# Altium footprint library resistor.PCBLIB: 427 footprints (part 19 of 27)
Each footprint in its own frame and in the unit in brackets; x right, y up, seen from the top. Pads: shape width x height; smd on the part's side, far side on the other; paste and mask are expansions set on the pad; w line width, h text height; cw(c..) or ccw(c..) is an arc to the next point about the centre after c.
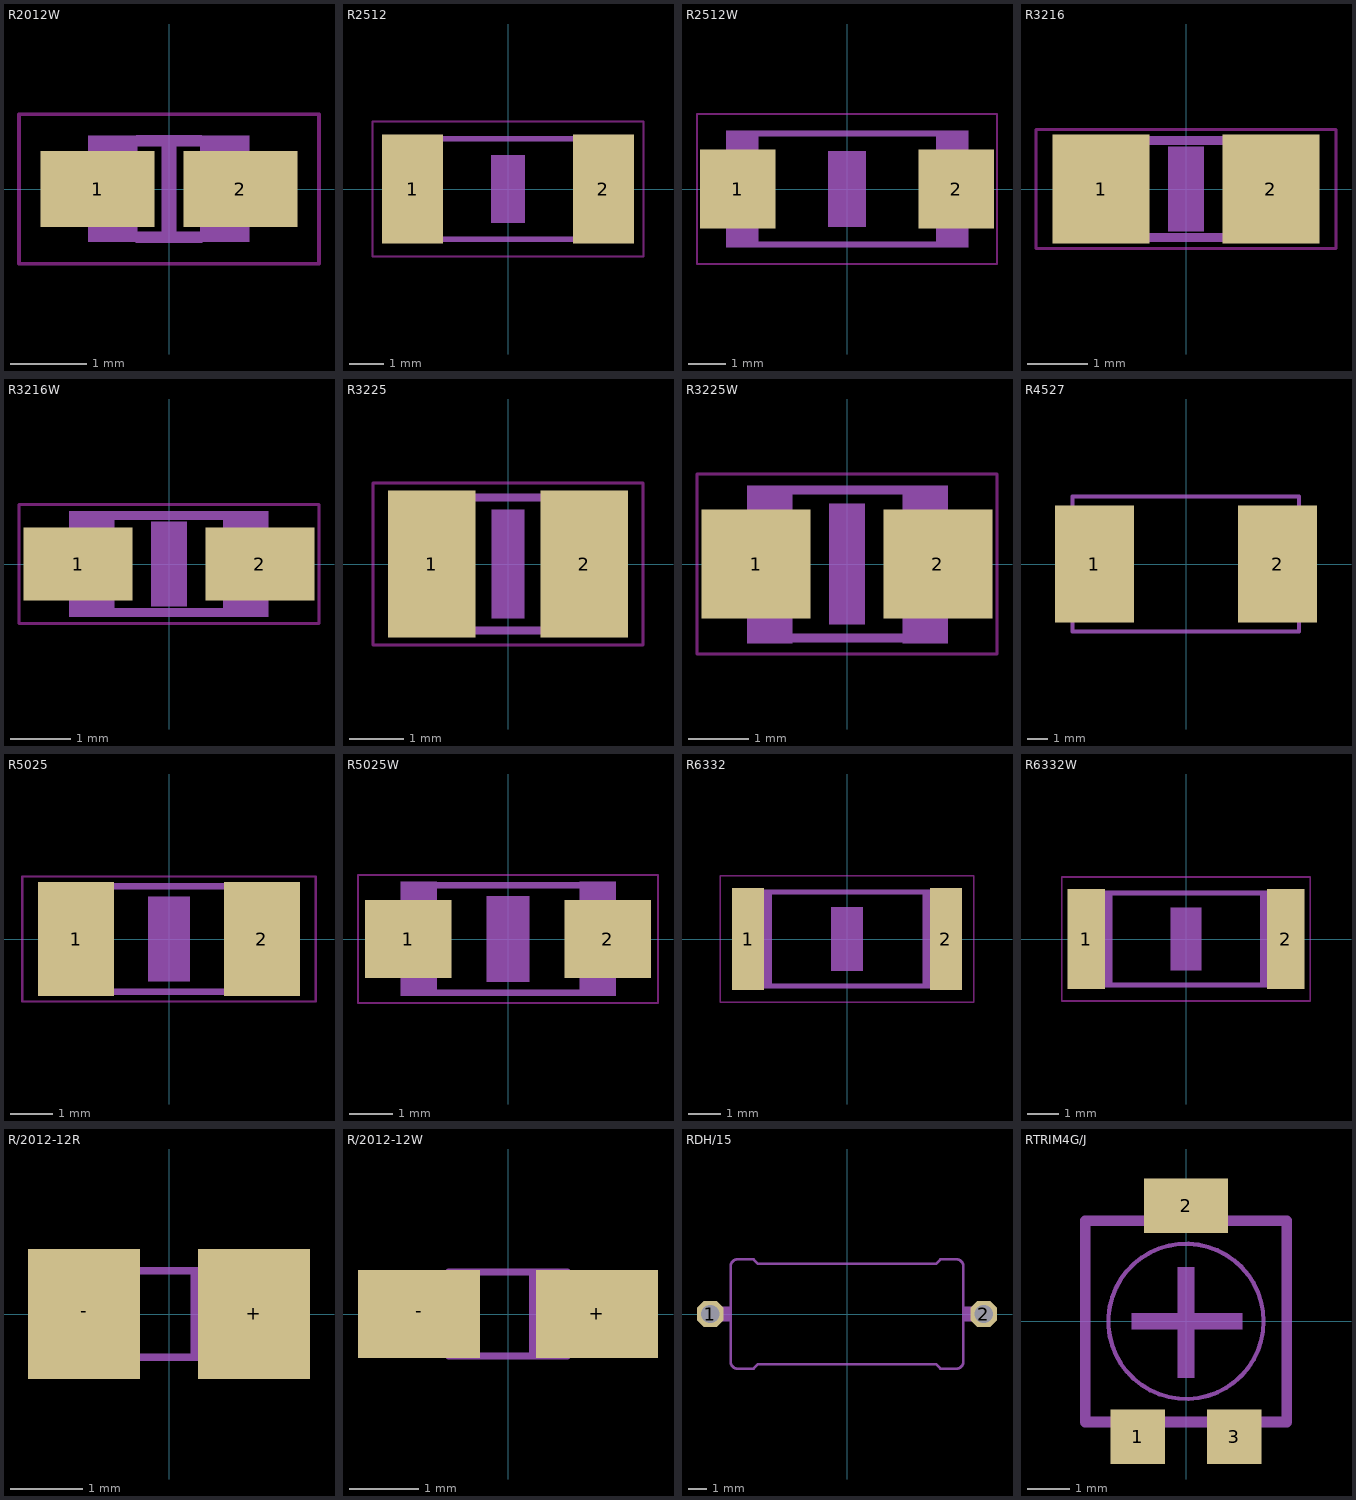
[diagram p18: the footprints below, top view; thin cyan lines are the x and y axes]

## R2012W [mm]
pads (2):
  rect 1.5x1 smd: 1(-0.94,0) 2(0.94,0)
Keep-Out Layer:
  lines w0.051: -1.973,-0.983 1.973,-0.983 1.973,0.983 -1.973,0.983 -1.973,-0.983
Mechanical 8:
  rectangle: -0.1,-0.6 0.1,0.6
Mechanical 18:
  rectangle: 0.406,-0.699 1.056,0.702
  rectangle: -1.067,-0.699 -0.417,0.702
  lines w0.152: -0.41,-0.635 0.41,-0.635 ; -0.41,0.635 0.41,0.635

## R2512 [mil]
pads (2):
  rect 70.87x125.98 smd: 1(-110.24,0) 2(110.24,0)
Keep-Out Layer:
  lines w2: -156.42,-78.07 156.42,-78.07 156.42,78.07 -156.42,78.07 -156.42,-78.07
Mechanical 8:
  rectangle: -19.69,-39.37 19.69,39.37
Mechanical 18:
  rectangle: -126,-61 -92.54,61.05
  rectangle: 93,-61 126.46,61.05
  lines w6: -92.99,-57.99 93.98,-57.99 ; -92.99,57.99 93.98,57.99

## R2512W [mm]
pads (2):
  rect 2x2.1 smd: 1(-2.896,0) 2(2.896,0)
Keep-Out Layer:
  lines w0.051: -3.973,-1.983 3.973,-1.983 3.973,1.983 -3.973,1.983 -3.973,-1.983
Mechanical 8:
  rectangle: -0.5,-1 0.5,1
Mechanical 18:
  rectangle: -3.2,-1.549 -2.351,1.551
  rectangle: 2.362,-1.549 3.212,1.551
  lines w0.152: -2.362,-1.473 2.387,-1.473 ; -2.362,1.473 2.387,1.473

## R3216 [mil]
pads (2):
  rect 62.99x70.87 smd: 1(-55.12,0) 2(55.12,0)
Keep-Out Layer:
  lines w2: -97.36,-38.7 97.36,-38.7 97.36,38.7 -97.36,38.7 -97.36,-38.7
Mechanical 8:
  rectangle: -11.81,-27.56 11.81,27.56
Mechanical 18:
  rectangle: -65,-34.5 -35.47,34.4
  rectangle: 35,-34.5 64.53,34.4
  lines w6: -35.94,-31.5 34.96,-31.5 ; -35.94,31.5 34.96,31.5

## R3216W [mil]
pads (2):
  rect 70.87x47.24 smd: 1(-59.02,0) 2(59.02,0)
Keep-Out Layer:
  lines w2: -97.36,-38.7 97.36,-38.7 97.36,38.7 -97.36,38.7 -97.36,-38.7
Mechanical 8:
  rectangle: -11.81,-27.56 11.81,27.56
Mechanical 18:
  rectangle: -65,-34.5 -35.47,34.4
  rectangle: 35,-34.5 64.53,34.4
  lines w6: -35.94,-31.5 34.96,-31.5 ; -35.94,31.5 34.96,31.5

## R3225 [mil]
pads (2):
  rect 62.99x106.3 smd: 1(-55.12,0) 2(55.12,0)
Keep-Out Layer:
  lines w2: -97.36,-58.39 97.36,-58.39 97.36,58.39 -97.36,58.39 -97.36,-58.39
Mechanical 8:
  rectangle: -11.81,-39.37 11.81,39.37
Mechanical 18:
  rectangle: -65,-51.5 -35.47,50.86
  rectangle: 36,-51.5 65.53,50.86
  lines w6: -35.94,-47.99 36.97,-47.99 ; -35.94,47.99 36.97,47.99

## R3225W [mil]
pads (2):
  rect 70.87x70.87 smd: 1(-59.02,0) 2(59.02,0)
Keep-Out Layer:
  lines w2: -97.36,-58.39 97.36,-58.39 97.36,58.39 -97.36,58.39 -97.36,-58.39
Mechanical 8:
  rectangle: -11.81,-39.37 11.81,39.37
Mechanical 18:
  rectangle: -65,-51.5 -35.47,50.86
  rectangle: 36,-51.5 65.53,50.86
  lines w6: -35.94,-47.99 36.97,-47.99 ; -35.94,47.99 36.97,47.99

## R4527 [mil]
pads (2):
  rect 155.12x229.92 smd: 1(-180.12,0) 2(180.12,0)
Mechanical 2:
  lines w8: -223.43,-132.87 222.44,-132.87 ; -223.43,132.87 222.44,132.87
Mechanical 18:
  lines w8: -223.43,-132.87 -223.43,132.87 ; 222.44,-132.87 222.44,132.87

## R5025 [mil]
pads (2):
  rect 70.87x106.3 smd: 1(-86.61,0) 2(86.61,0)
Keep-Out Layer:
  lines w2: -136.73,-58.39 136.73,-58.39 136.73,58.39 -136.73,58.39 -136.73,-58.39
Mechanical 8:
  rectangle: -19.69,-39.37 19.69,39.37
Mechanical 18:
  rectangle: -98,-52 -64.54,52.33
  rectangle: 65,-52 98.46,52.33
  lines w6: -65.43,49.02 65.43,49.02 ; -64.45,-49.02 66.42,-49.02

## R5025W [mm]
pads (2):
  rect 2x1.8 smd: 1(-2.311,0) 2(2.311,0)
Keep-Out Layer:
  lines w0.051: -3.473,-1.483 3.473,-1.483 3.473,1.483 -3.473,1.483 -3.473,-1.483
Mechanical 8:
  rectangle: -0.5,-1 0.5,1
Mechanical 18:
  rectangle: -2.489,-1.321 -1.639,1.329
  rectangle: 1.651,-1.321 2.501,1.329
  lines w0.152: -1.662,1.245 1.662,1.245 ; -1.637,-1.245 1.687,-1.245

## R6332 [mm]
pads (2):
  rect 1x3.2 smd: 1(-3.1,0) 2(3.1,0)
Keep-Out Layer:
  lines w0.051: -3.973,-1.983 3.973,-1.983 3.973,1.983 -3.973,1.983 -3.973,-1.983
Mechanical 8:
  rectangle: -0.5,-1 0.5,1
Mechanical 18:
  rectangle: -3.2,-1.549 -2.351,1.551
  rectangle: 2.362,-1.549 3.212,1.551
  lines w0.152: -2.362,-1.473 2.387,-1.473 ; -2.362,1.473 2.387,1.473

## R6332W [mil]
pads (2):
  rect 47.24x125.98 smd: 1(-125.83,0) 2(125.83,0)
Keep-Out Layer:
  lines w2: -156.42,-78.07 156.42,-78.07 156.42,78.07 -156.42,78.07 -156.42,-78.07
Mechanical 8:
  rectangle: -19.69,-39.37 19.69,39.37
Mechanical 18:
  rectangle: -126,-61 -92.54,61.05
  rectangle: 93,-61 126.46,61.05
  lines w6: -92.99,-57.99 93.98,-57.99 ; -92.99,57.99 93.98,57.99

## R/2012-12R [mm]
pads (2):
  rect 1.55x1.8 smd: +(1.175,0) -(-1.175,0)
Mechanical 18:
  rectangle: -1,-0.45 -0.875,0.45
  rectangle: 0.875,-0.45 1,0.45
  rectangle: 0.3,-0.625 0.5,0.625
  lines w0.102: -0.85,-0.6 0.85,-0.6 0.85,0.6 -0.85,0.6 -0.85,-0.6

## R/2012-12W [mil]
pads (2):
  rect 68.9x49.61 smd: +(50.2,0) -(-50.2,0)
Mechanical 18:
  rectangle: -39.37,-17.72 -34.45,17.72
  rectangle: 34.45,-17.72 39.37,17.72
  rectangle: 11.81,-24.61 19.69,24.61
  lines w4: -33.46,-23.62 33.46,-23.62 33.46,23.62 -33.46,23.62 -33.46,-23.62

## RDH/15 [mil]
pads (2):
  oct 58.09x58.09 hole 40: 1(-300,0) 2(300,0)
Mechanical 2:
  lines w6: -255,-40 -255,-105 ccw(c-240,-105) -240,-120 -205,-120 -195,-110 195,-110 205,-120 240,-120 ccw(c240,-105) 255,-105 255,-40 ; -255,40 -255,105 cw(c-240,105) -240,120 -205,120 -195,110 195,110 205,120 240,120 cw(c240,105) 255,105 255,40
Mechanical 18:
  rectangle: -266,-16 -254,16
  rectangle: 254,-16 266,16
  lines w6: -255,-40 -255,40 ; 255,-40 255,40
  lines w32: -300,0 -270,0 ; 270,0 300,0

## RTRIM4G/J [mm]
pads (3):
  rect 1.3x1.3 smd: 1(-1.15,-2.75) 3(1.15,-2.75)
  rect 2x1.3 smd: 2(0,2.75)
Mechanical 2:
  circle w0.102: c0,0 r1.85
  rectangle: -1.3,-0.2 1.35,0.2
  rectangle: -0.2,-1.35 0.2,1.3
  lines w0.254: -2.1,-2.4 -2.4,-2.4 -2.4,2.4 -1.25,2.4 ; -0.25,-2.4 0.25,-2.4 ; 1.25,2.4 2.4,2.4 2.4,-2.4 2,-2.4
Mechanical 18:
  lines w0.254: -2.4,-2.4 -2.4,2.4 2.4,2.4 2.4,-2.4 -2.4,-2.4